# Altium footprint library CN_B2B-XH-A.PcbLib: 1 footprints
Each footprint in its own frame and in the unit in brackets; x right, y up, seen from the top. Pads: shape width x height; smd on the part's side, far side on the other; paste and mask are expansions set on the pad; w line width, h text height; cw(c..) or ccw(c..) is an arc to the next point about the centre after c.
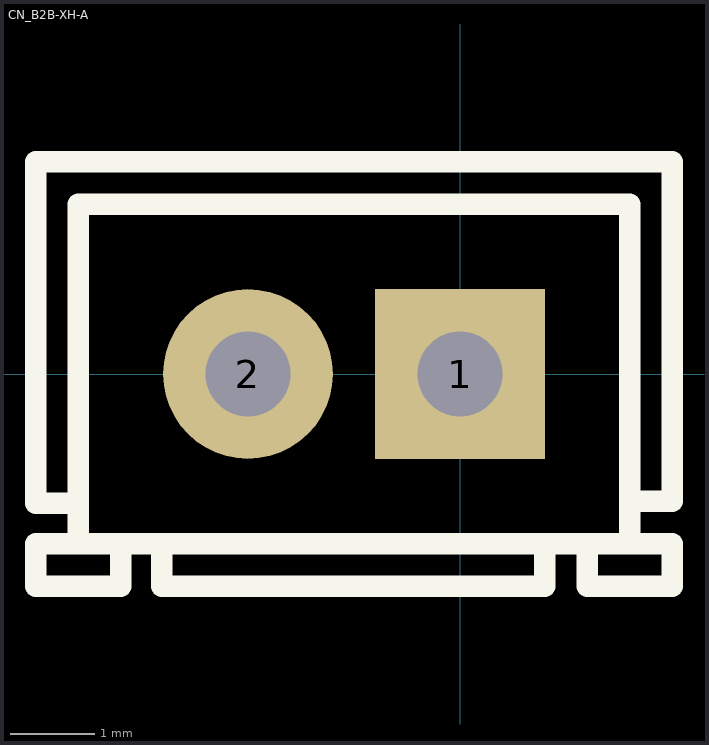
[diagram p0: the footprint, top view; thin cyan lines are the x and y axes]

## CN_B2B-XH-A [mm] "2p. PCB connector - 180°"
pads (2):
  rect 2x2 hole 1: 1(0,0)
  round 2 hole 1: 2(-2.5,0)
Top Overlay:
  lines w0.254: -4.5,-2 -5,-2 -5,-2.5 -4,-2.5 -4,-2 -3.515,-2 -3.515,-2.5 1,-2.5 1,-2 1.5,-2 1.5,-2.5 2.5,-2.5 2.5,-2 2,-2 ; -4.5,-2 -4.5,-1.524 ; -4.5,-2 2,-2 ; -4.5,-1.524 -4.5,2 2,2 2,-2 ; -4.5,-1.524 -5,-1.524 -5,2.5 2.5,2.5 2.5,-1.5 2,-1.5 2,-2
3D body: height 7, standoff -3.3, extent -5,-2.3 2.5,3.4